# Altium footprint library RESC_0603.PcbLib: 1 footprints
Each footprint in its own frame and in the unit in brackets; x right, y up, seen from the top. Pads: shape width x height; smd on the part's side, far side on the other; paste and mask are expansions set on the pad; w line width, h text height; cw(c..) or ccw(c..) is an arc to the next point about the centre after c.
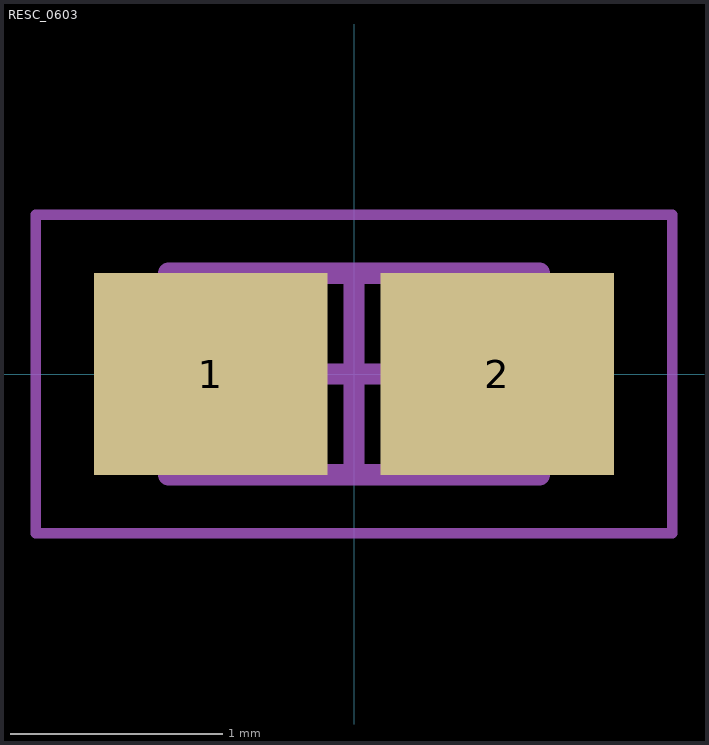
[diagram p0: the footprint, top view; thin cyan lines are the x and y axes]

## RESC_0603 [mm]
height 0.95
pads (2):
  rect 1.1x0.95 smd: 1(-0.675,0) 2(0.675,0)
Top 3D Body:
  lines w0.1: -0.875,-0.475 -0.875,0.475 0.875,0.475 0.875,-0.475 -0.875,-0.475
Top Courtyard (Mech15):
  lines w0.05: -1.5,-0.75 -1.5,0.75 1.5,0.75 1.5,-0.75 -1.5,-0.75
  lines w0.1: -0.475,0 0.475,0 ; 0,-0.475 0,0.475
3D body: height 0.95, standoff 0, extent -0.475,-0.475 0.475,0.475
3D body: height 0.95, standoff 0, extent -0.875,-0.475 -0.475,0.475
3D body: height 0.95, standoff 0, extent 0.475,-0.475 0.875,0.475